# EAGLE library part 74S51N (library EW_IC_74_Logic)
AND-OR-INVERT gates. Category: Gates Manufacturer: Generic
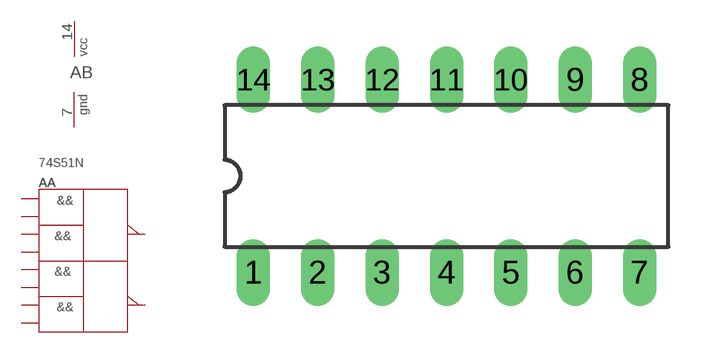
[diagram p268: symbol with the pads of DIL14; footprint DIL14]

Designator prefix A; gates A=7451_AND-OR-INVERT B=PWRN

## 74S51N  [DIL14]
1  A:A1  pwr
2  A:A2  pwr
3  A:B2  pwr
4  A:C2  pwr
5  A:D2  pwr
6  A:Y2  pwr
7  B:GND  pwr
8  A:Y1  pwr
9  A:C1  pwr
10  A:D1  pwr
13  A:B1  pwr
14  B:VCC  pwr

## Footprint DIL14 (pad centres in mm)
SOCKET Dual In Line
drill 0.813 long: 1 -7.62,-3.81; 2 -5.08,-3.81; 3 -2.54,-3.81; 4 0,-3.81; 5 2.54,-3.81; 6 5.08,-3.81; 7 7.62,-3.81; 8 7.62,3.81; 9 5.08,3.81; 10 2.54,3.81; 11 0,3.81; 12 -2.54,3.81; 13 -5.08,3.81; 14 -7.62,3.81